# Altium footprint library Connector.PcbLib: 240 footprints (part 9 of 15)
Each footprint in its own frame and in the unit in brackets; x right, y up, seen from the top. Pads: shape width x height; smd on the part's side, far side on the other; paste and mask are expansions set on the pad; w line width, h text height; cw(c..) or ccw(c..) is an arc to the next point about the centre after c.
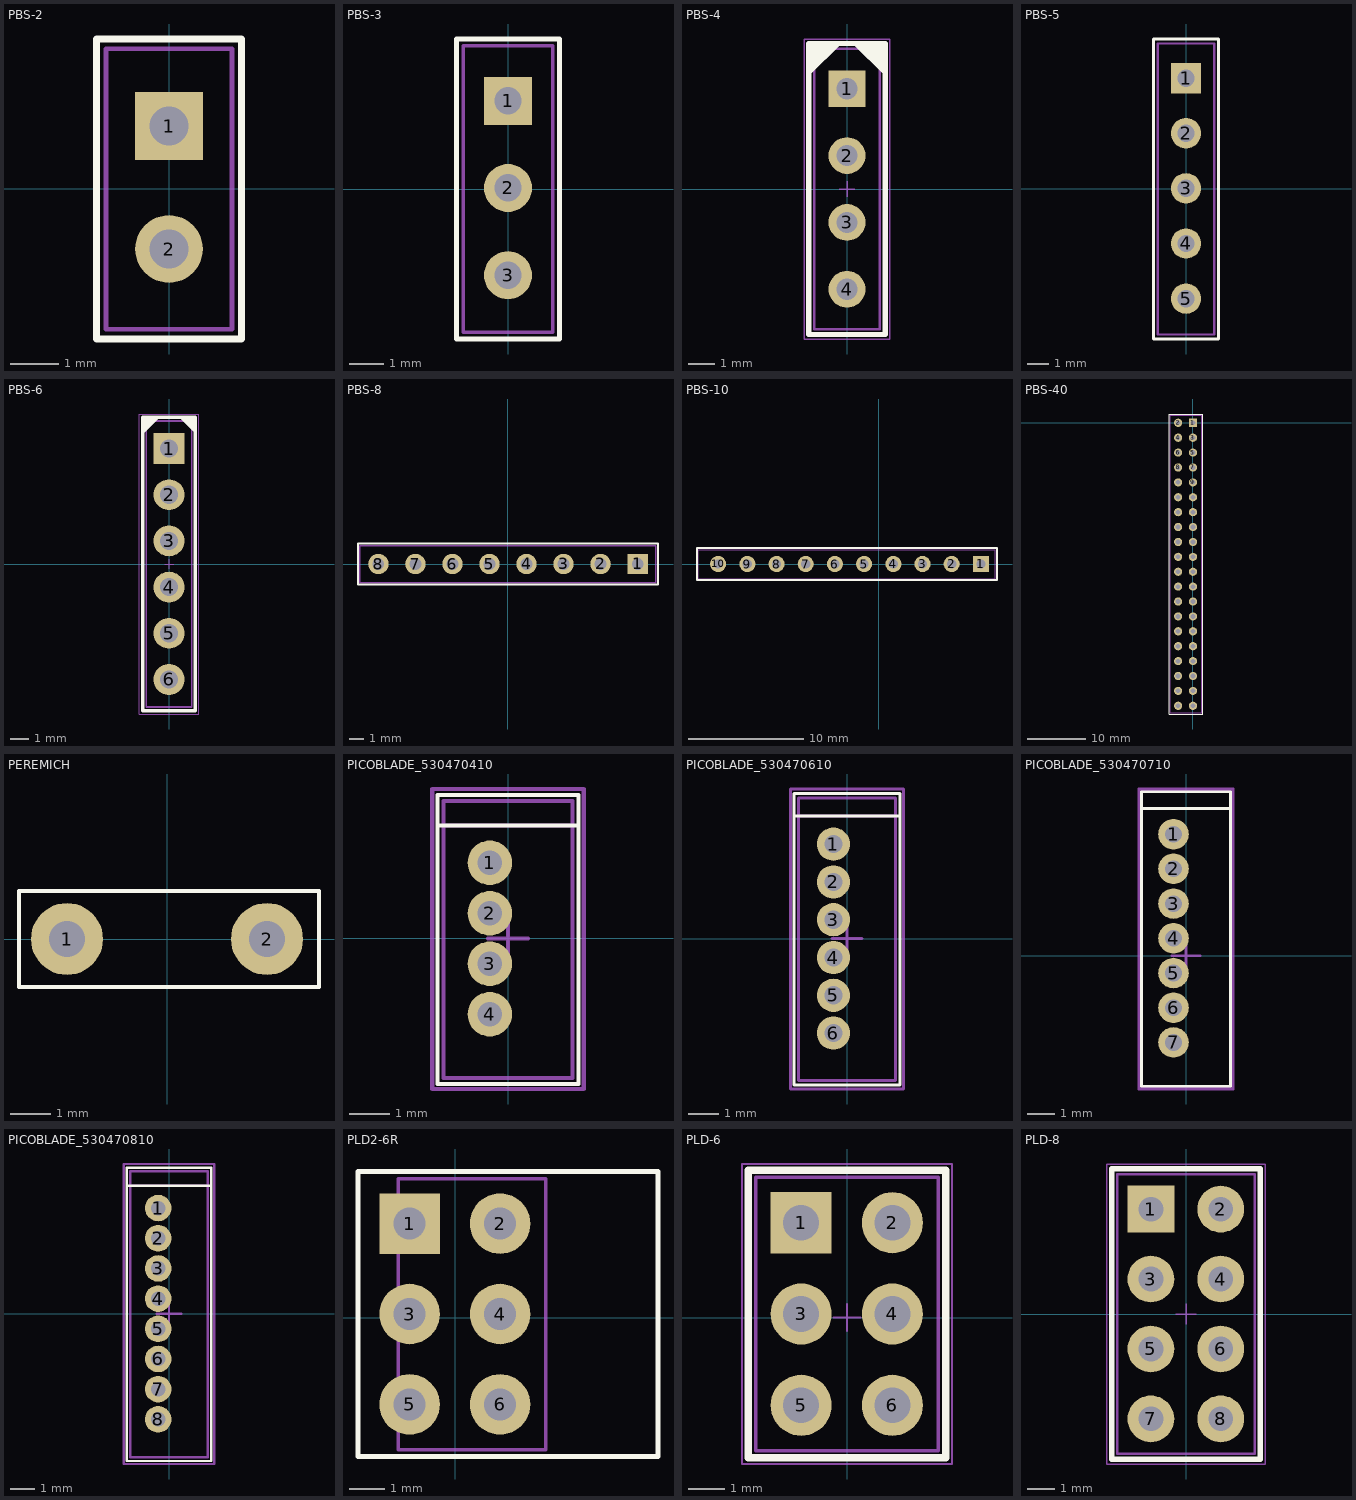
[diagram p8: the footprints below, top view; thin cyan lines are the x and y axes]

## PBS-2 [mm]
height 0.05
pads (2):
  rect 1.4x1.4 hole 0.8: 1(0,1.3)
  round 1.4 hole 0.8: 2(0,-1.24)
Top Overlay:
  lines w0.15: -1.5,-3.1 -1.5,3.1 1.5,3.1 1.5,-3.1 -1.5,-3.1
Mechanical 7:
  lines w0.1: -1.3,-2.9 -1.3,2.9 1.3,2.9 1.3,-2.9 -1.3,-2.9
Mechanical 9:
  text ".Designator" at -4.75,5.3 h3.5
Mechanical 10:
  text ".Comment" at -2.5,3.3 h2
3D body "2х1.STEP": height 8.5, standoff -3, extent -1.27,-2.89 1.27,2.89

## PBS-3 [mm]
height 0.05
pads (3):
  rect 1.4x1.4 hole 0.8: 1(0,2.575)
  round 1.4 hole 0.8: 2(0,0.035) 3(0,-2.505)
Top Overlay:
  lines w0.15: -1.5,-4.365 -1.5,4.375 1.5,4.375 1.5,-4.365 -1.5,-4.365
Mechanical 7:
  lines w0.1: -1.3,-4.165 -1.3,4.175 1.3,4.175 1.3,-4.165 -1.3,-4.165
Mechanical 9:
  text ".Designator" at -4.75,6.575 h3.5
Mechanical 10:
  text ".Comment" at -2.5,4.575 h2
3D body "3х1.STEP": height 8.5, standoff -3, extent -1.27,-4.14 1.27,4.18

## PBS-4 [mm] "2.5mm x 10.65mm"
height 8.5
pads (4):
  rect 1.4x1.4 hole 0.8: 1(0,3.81)
  round 1.4 hole 0.8: 2(0,1.27) 3(0,-1.27) 4(0,-3.81)
Top Overlay:
  region: -0.225,5.525 -1.45,5.525 -1.45,4.3
  region: 0.225,5.525 1.45,5.525 1.45,4.3
  lines w0.2: -1.45,-5.525 1.45,-5.525 1.45,5.525 -1.45,5.525 -1.45,-5.525
Mechanical 13:
  lines w0.1: -1.25,-5.33 1.25,-5.33 1.25,5.33 -1.25,5.33 -1.25,-5.33
Mechanical 15:
  lines w0.05: -0.285,0 0.285,0 ; 0,-0.285 0,0.285 ; -1.625,-5.7 -1.625,5.7 1.625,5.7 1.625,-5.7 -1.625,-5.7
3D body "User Library-PBS_(DS1023)_1line_connectors_h=5_0_8_5mm_step_2_54mm-1.step": height 8.6, standoff -2.9, extent -1.25,-5.33 1.25,5.33

## PBS-5 [mm]
height 0.05
pads (5):
  rect 1.4x1.4 hole 0.8: 1(0,5.105)
  round 1.4 hole 0.8: 2(0,2.565) 3(0,0.025) 4(0,-2.515) 5(0,-5.055)
Top Overlay:
  lines w0.15: -1.5,-6.915 1.5,-6.915 1.5,6.905 -1.5,6.905 -1.5,-6.915
Mechanical 7:
  lines w0.1: -1.3,-6.715 1.3,-6.715 1.3,6.705 -1.3,6.705 -1.3,-6.715
Mechanical 9:
  text ".Designator" at -4.75,9.105 h3.5
Mechanical 10:
  text ".Comment" at -2.5,7.105 h2
3D body "5х1.STEP": height 8.5, standoff -3, extent -1.27,-6.7 1.27,6.7

## PBS-6 [mm] "15.75mm x 2.5mm"
height 8.5
pads (6):
  rect 1.7x1.7 hole 1: 1(0,6.35)
  round 1.7 hole 1: 2(0,3.81) 3(0,1.27) 4(0,-1.27) 5(0,-3.81) 6(0,-6.35)
Top Overlay:
  region: -0.511,8.075 -1.45,8.075 -1.45,7.136
  region: 0.557,8.075 1.496,8.075 1.496,7.136
  lines w0.2: -1.45,-8.076 1.45,-8.076 1.45,8.075 -1.45,8.075 -1.45,-8.076
Mechanical 13:
  lines w0.1: -1.25,-7.87 1.25,-7.87 1.25,7.87 -1.25,7.87 -1.25,-7.87
Mechanical 15:
  lines w0.05: -0.225,0 0.25,0 ; 0,-0.259 0,0.253 ; -1.625,-8.25 1.625,-8.25 1.625,8.25 -1.625,8.25 -1.625,-8.25
3D body "User Library-PBS_(DS1023)_1line_connectors_h=5_0_8_5mm_step_2_54mm-1.step": height 8.5, standoff -3, extent -1.25,-7.87 1.25,7.87

## PBS-8 [mm]
height 0.05
pads (8):
  rect 1.4x1.4 hole 0.8: 1(8.9,0.025)
  round 1.4 hole 0.8: 2(6.36,0.025) 3(3.82,0.025) 5(-1.26,0.025) 6(-3.8,0.025) 7(-6.34,0.025) 8(-8.88,0.025)
  round 1.4 hole 0.8 mask+0.102: 4(1.28,0.025)
Top Overlay:
  lines w0.15: -10.28,-1.375 -10.28,1.425 10.3,1.425 10.3,-1.375 -10.28,-1.375
Mechanical 7:
  lines w0.1: -10.15,-1.25 -10.15,1.275 10.15,1.275 10.15,-1.25 -10.15,-1.25
Mechanical 9:
  text ".Designator" at -4.75,12.9 h3.5
Mechanical 10:
  text ".Comment" at -2.5,10.9 h2
3D body "8х1.STEP": height 8.5, standoff -3, extent -10.135,-1.245 10.185,1.295

## PBS-10 [mm]
height 0.05
pads (10):
  rect 1.4x1.4 hole 0.8: 1(8.9,0.025)
  round 1.4 hole 0.8: 2(6.36,0.025) 3(3.82,0.025) 5(-1.26,0.025) 6(-3.8,0.025) 7(-6.34,0.025) 8(-8.88,0.025) 9(-11.42,0.025) 10(-13.96,0.025)
  round 1.4 hole 0.8 mask+0.102: 4(1.28,0.025)
Top Overlay:
  lines w0.15: -15.8,-1.375 10.3,-1.375 10.3,1.425 -15.8,1.425 -15.8,-1.375
Mechanical 7:
  lines w0.1: -15.67,-1.25 10.15,-1.25 10.15,1.275 -15.67,1.275 -15.67,-1.25
Mechanical 9:
  text ".Designator" at -4.75,12.9 h3.5
Mechanical 10:
  text ".Comment" at -2.5,10.9 h2
3D body "2х1.STEP": height 8.5, standoff -3, extent -15.551,-1.245 -9.771,1.295
3D body "8х1.STEP": height 8.5, standoff -3, extent -10.135,-1.245 10.185,1.295

## PBS-40 [mm]
height 0.05
pads (40):
  rect 1.4x1.4 hole 0.8: 1(0,0)
  round 1.4 hole 0.8: 2(-2.54,0) 3(0,-2.54) 4(-2.54,-2.54) 5(0,-5.08) 6(-2.54,-5.08) 8(-2.54,-7.62) 9(0,-10.16) 10(-2.54,-10.16) 11(0,-12.7) 12(-2.54,-12.7) 13(0,-15.24) 14(-2.54,-15.24) 15(0,-17.78) 16(-2.54,-17.78) 19(0,-22.86) 20(-2.54,-22.86) 21(0,-25.4) 22(-2.54,-25.4) 23(0,-27.94) 24(-2.54,-27.94) 25(0,-30.48) 26(-2.54,-30.48) 27(0,-33.02) 28(-2.54,-33.02) 31(0,-38.1) 32(-2.54,-38.1) 33(0,-40.64) 34(-2.54,-40.64) 35(0,-43.18) 36(-2.54,-43.18) 39(0,-48.26) 40(-2.54,-48.26)
  round 1.4 hole 0.8 mask+0.102: 7(0,-7.62) 17(0,-20.32) 18(-2.54,-20.32) 29(0,-35.56) 30(-2.54,-35.56) 37(0,-45.72) 38(-2.54,-45.72)
Top Overlay:
  lines w0.15: -4.04,-49.66 -4.04,1.5 1.66,1.5 1.66,-49.66 -4.04,-49.66
Mechanical 7:
  lines w0.1: -3.85,-49.41 1.46,-49.41 1.46,1.25 -3.85,1.25 -3.85,-49.4
Mechanical 10:
  text ".Designator" at -1.34,0.78 h0.8
  text ".Comment" at -1.44,-7.92 h0.6
3D body "User Library-PBS-10.step": height 8.4, standoff -3.2, extent -3.81,-24.13 -1.27,1.27
3D body "User Library-PBS-10.step": height 8.4, standoff -3.2, extent -1.27,-24.13 1.27,1.27
3D body "User Library-PBS-10.step": height 8.4, standoff -3.2, extent -3.81,-49.53 -1.27,-24.13
3D body "User Library-PBS-10.step": height 8.4, standoff -3.2, extent -1.27,-49.53 1.27,-24.13

## PEREMICH [mm]
pads (2):
  round 1.8 hole 0.9: 1(-2.5,0) 2(2.5,0)
Top Overlay:
  lines w0.1: -3.7,-1.2 -3.7,-0.1 -3.7,1.2 3.8,1.2 3.8,-1.2 -1.3,-1.2 -3.7,-1.2

## PICOBLADE_530470410 [mm]
pads (4):
  round 1.1 hole 0.6 mask+0: 1(-0.45,1.875) 2(-0.45,0.625) 3(-0.45,-0.625) 4(-0.45,-1.875)
Top Overlay:
  lines w0.1: -1.75,2.8 1.75,2.8 ; -1.75,-3.6 -1.75,3.55 1.75,3.55 1.75,-3.6 -1.75,-3.6
Mechanical 11:
  lines w0.1: -1.6,2.8 1.6,2.8 ; -1.6,-3.45 -1.6,3.4 1.6,3.4 1.6,-3.45 -1.6,-3.45
Mechanical 15:
  lines w0.1: -0.5,0 0.5,0 ; 0,-0.5 0,0.5 ; -1.875,-3.725 -1.875,3.7 1.875,3.7 1.875,-3.725 -1.875,-3.725
3D body "530470410.stp": height 4.28, standoff -2.22, extent -1.6,-3.375 1.6,3.375

## PICOBLADE_530470610 [mm]
pads (6):
  round 1.1 hole 0.6 mask+0: 1(-0.45,3.125) 2(-0.45,1.875) 3(-0.45,0.625) 4(-0.45,-0.625) 5(-0.45,-1.875) 6(-0.45,-3.125)
Top Overlay:
  lines w0.1: -1.75,4.05 1.75,4.05 ; -1.75,-4.85 1.75,-4.85 1.75,4.8 -1.75,4.8 -1.75,-4.85
Mechanical 11:
  lines w0.1: -1.6,4.05 1.6,4.05 ; -1.6,-4.7 1.6,-4.7 1.6,4.65 -1.6,4.65 -1.6,-4.7
Mechanical 15:
  lines w0.1: -0.5,0 0.5,0 ; 0,-0.5 0,0.5 ; -1.875,-4.975 1.875,-4.975 1.875,4.95 -1.875,4.95 -1.875,-4.975
3D body "530470610.stp": height 4.28, standoff -2.22, extent -1.6,-4.625 1.6,4.625

## PICOBLADE_530470710 [mm]
pads (7):
  round 1.1 hole 0.6 mask+0: 1(-0.45,4.375) 2(-0.45,3.125) 3(-0.45,1.875) 4(-0.45,0.625) 5(-0.45,-0.625) 6(-0.45,-1.875) 7(-0.45,-3.125)
Top Overlay:
  lines w0.1: -1.6,5.3 1.6,5.3 ; -1.6,-4.7 1.6,-4.7 1.6,5.9 -1.6,5.9 -1.6,-4.7
Mechanical 11:
  lines w0.1: -1.6,5.3 1.6,5.3 ; -1.6,-4.7 -1.6,5.9 1.6,5.9 1.6,-4.7 -1.6,-4.7
Mechanical 15:
  lines w0.1: -0.5,0 0.5,0 ; 0,-0.5 0,0.5 ; -1.7,-4.8 1.7,-4.8 1.7,6 -1.7,6 -1.7,-4.8
3D body "Connector 510210700 & 530470710.STEP": height 5.28, standoff -2.22, extent -1.6,-4.65 1.6,5.85

## PICOBLADE_530470810 [mm]
pads (8):
  round 1.1 hole 0.6 mask+0: 1(-0.45,4.375) 2(-0.45,3.125) 3(-0.45,1.875) 4(-0.45,0.625) 5(-0.45,-0.625) 6(-0.45,-1.875) 7(-0.45,-3.125) 8(-0.45,-4.375)
Top Overlay:
  lines w0.1: -1.75,5.3 1.75,5.3 ; -1.75,-6.1 -1.75,6.05 1.75,6.05 1.75,-6.1 -1.75,-6.1
Mechanical 11:
  lines w0.1: -1.6,5.3 1.6,5.3 ; -1.6,-5.95 -1.6,5.9 1.6,5.9 1.6,-5.95 -1.6,-5.95
Mechanical 15:
  lines w0.1: -0.5,0 0.5,0 ; 0,-0.5 0,0.5 ; -1.875,-6.225 -1.875,6.2 1.875,6.2 1.875,-6.225 -1.875,-6.225
3D body "530470810.stp": height 4.28, standoff -2.22, extent -1.6,-5.875 1.6,5.875

## PLD2-6R [mm]
height 0.05
pads (6):
  rect 1.7x1.7 hole 0.9: 1(-1.275,2.64)
  round 1.7 hole 0.9: 2(1.265,2.64) 3(-1.275,0.1) 4(1.265,0.1) 5(-1.275,-2.44) 6(1.265,-2.44)
Top Overlay:
  lines w0.15: -2.725,-3.9 -2.725,4.1 5.7,4.1 5.7,-3.9 -2.725,-3.9
Mechanical 9:
  text ".Designator" at -5.2,5.4 h3.5
Mechanical 10:
  text ".Comment" at -3,-5.4 h2
Mechanical 11:
  lines w0.1: -1.6,-3.715 -1.6,3.9 2.55,3.9 2.55,-3.715 -1.6,-3.715
3D body "User Library-DS1022-2x3R61.STEP": height 5, standoff -3, extent -1.585,-3.695 11.455,3.925

## PLD-6 [mm] "7.62mm x 5mm"
height 6.1
pads (6):
  rect 1.7x1.7 hole 1: 1(-1.275,2.64)
  round 1.7 hole 1: 2(1.265,2.64) 3(-1.275,0.1) 4(1.265,0.1) 5(-1.275,-2.44) 6(1.265,-2.44)
Top Overlay:
  lines w0.2: -2.75,-3.9 2.75,-3.9 2.75,4.1 -2.75,4.1 -2.75,-3.9
Mechanical 13:
  lines w0.1: -2.54,-3.71 2.54,-3.71 2.54,3.91 -2.54,3.91 -2.54,-3.71
Mechanical 15:
  lines w0.05: -0.375,0 0.375,0 ; 0,-0.375 0,0.375 ; -2.925,-4.075 2.925,-4.075 2.925,4.275 -2.925,4.275 -2.925,-4.075
3D body "User Library-PLD6.STEP": height 8.54, standoff -3, extent -2.54,-3.71 2.54,3.91

## PLD-8 [mm] "10.16mm x 5mm"
height 6.1
pads (8):
  rect 1.7x1.7 hole 0.9: 1(-1.275,3.81)
  round 1.7 hole 0.9: 2(1.265,3.81) 3(-1.275,1.27) 4(1.265,1.27) 5(-1.275,-1.27) 6(1.265,-1.27) 7(-1.275,-3.81) 8(1.265,-3.81)
Top Overlay:
  lines w0.2: -2.7,-5.275 -2.7,5.275 2.7,5.275 2.7,-5.275 -2.7,-5.275
Mechanical 13:
  lines w0.1: -2.5,-5.08 2.5,-5.08 2.5,5.08 -2.5,5.08 -2.5,-5.08
Mechanical 15:
  lines w0.05: -0.375,0 0.375,0 ; 0,-0.375 0,0.375 ; -2.875,-5.45 2.875,-5.45 2.875,5.45 -2.875,5.45 -2.875,-5.45
3D body "User Library-PLD-8.step": height 8.5, standoff -3, extent -2.5,-5.08 2.5,5.08